# Altium footprint library PcbLib1.PcbLib: 31 footprints (part 1 of 2)
Each footprint in its own frame and in the unit in brackets; x right, y up, seen from the top. Pads: shape width x height; smd on the part's side, far side on the other; paste and mask are expansions set on the pad; w line width, h text height; cw(c..) or ccw(c..) is an arc to the next point about the centre after c.
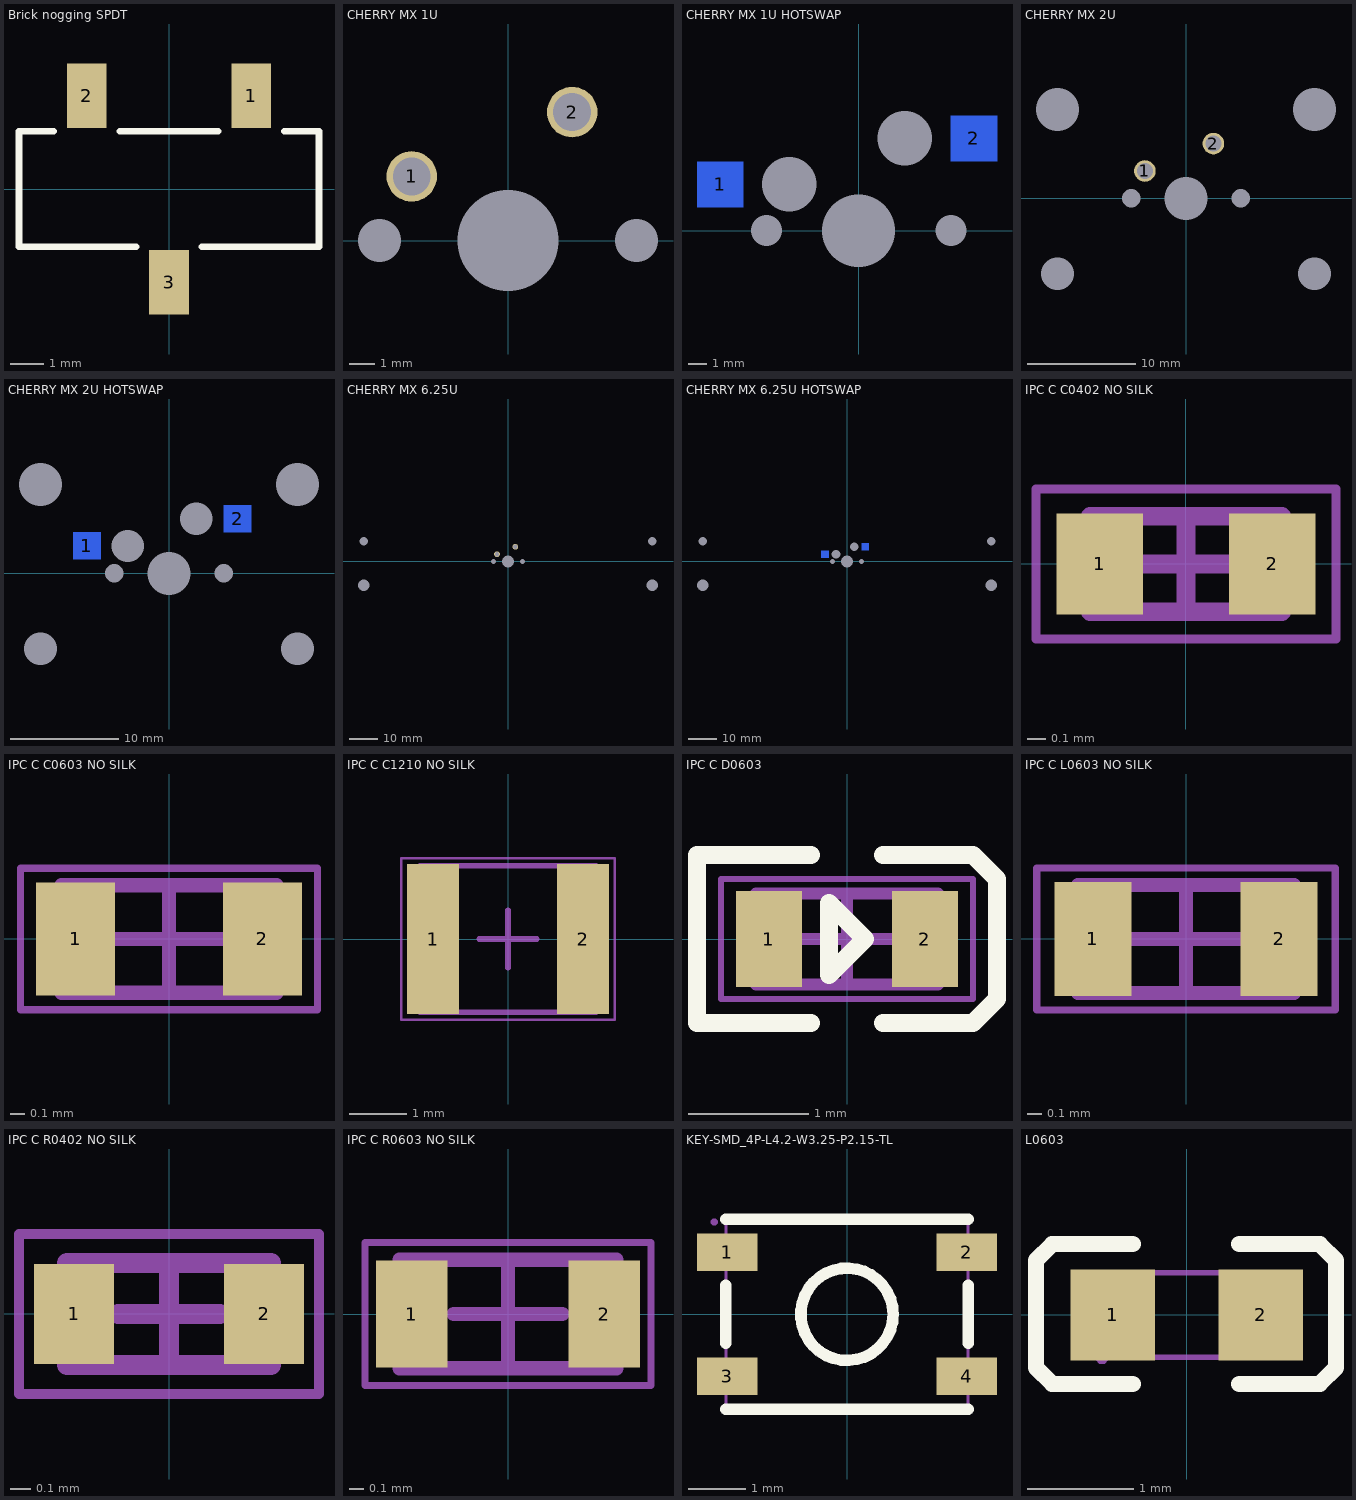
[diagram p0: the footprints below, top view; thin cyan lines are the x and y axes]

## Brick nogging SPDT [mm]
pads (3):
  rect 1.2x1.95 / inner rect 0x0 / far side rect 0x0 all layers, no hole mask+0.102: 1(2.5,2.825) 2(-2.5,2.825) 3(0,-2.825)
Top Overlay:
  lines w0.2: -3.5,1.75 -4.55,1.75 -4.55,-1.75 -1,-1.75 ; -1.5,1.75 1.5,1.75 ; 1,-1.75 4.55,-1.75 4.55,1.75 3.5,1.75

## CHERRY MX 1U [mm]
pads (5):
  round 0 hole 1.71 unplated mask+0: 0(-5.08,0) 0(5.08,0)
  round 0 hole 4 unplated mask+0: 0(0,0)
  round 2 hole 1.5 mask+0.15: 1(-3.81,2.54) 2(2.54,5.08)
3D body "MX_no_LED.stp": height 15.57, standoff -3.03, extent -7.81,-7.8 7.789,7.8

## CHERRY MX 1U HOTSWAP [mm]
pads (7):
  round 0 hole 1.71 unplated mask+0: 0(-5.08,0) 0(5.08,0)
  round 0 hole 3 unplated mask+0: 0(-3.81,2.54) 0(2.54,5.08)
  round 0 hole 4 unplated mask+0: 0(0,0)
  rect 2.55x2.5 smd far side mask+0.15: 1(-7.62,2.54) 2(6.35,5.08)
3D body "MX_no_LED.stp": height 15.57, standoff -3.03, extent -7.789,-7.8 7.81,7.8
3D body "PG151101S11--3DModel-STEP-1.STEP": height 1.85, standoff -1.25, extent -7.885,0.865 6.615,6.755

## CHERRY MX 2U [mm]
pads (9):
  round 0 hole 3.048 unplated mask+0: 0(-11.906,-6.985) 0(11.906,-6.985)
  round 0 hole 3.988 unplated mask+0: 0(-11.906,8.255) 0(11.906,8.255)
  round 0 hole 1.71 unplated mask+0: 0(-5.08,0) 0(5.08,0)
  round 0 hole 4 unplated mask+0: 0(0,0)
  round 2 hole 1.5 mask+0.15: 1(-3.81,2.54) 2(2.54,5.08)
3D body "MX_no_LED.stp": height 15.57, standoff -3.03, extent -7.8,-7.789 7.8,7.81

## CHERRY MX 2U HOTSWAP [mm]
pads (11):
  round 0 hole 3.048 unplated mask+0: 0(-11.906,-6.985) 0(11.906,-6.985)
  round 0 hole 3.988 unplated mask+0: 0(-11.906,8.255) 0(11.906,8.255)
  round 0 hole 1.71 unplated mask+0: 0(-5.08,0) 0(5.08,0)
  round 0 hole 3 unplated mask+0: 0(-3.81,2.54) 0(2.54,5.08)
  round 0 hole 4 unplated mask+0: 0(0,0)
  rect 2.55x2.5 smd far side mask+0.15: 1(-7.62,2.54) 2(6.35,5.08)
3D body "PG151101S11--3DModel-STEP-1.STEP": height 1.85, standoff -1.25, extent -7.885,0.865 6.615,6.755
3D body "MX_no_LED.stp": height 15.57, standoff -3.03, extent -7.789,-7.8 7.81,7.8

## CHERRY MX 6.25U [mm]
pads (9):
  round 0 hole 3.988 unplated mask+0: 0(-50,-8.255) 0(50,-8.255)
  round 0 hole 3.048 unplated mask+0: 0(-50,6.985) 0(50,6.985)
  round 0 hole 1.71 unplated mask+0: 0(-5.08,0) 0(5.08,0)
  round 0 hole 4 unplated mask+0: 0(0,0)
  round 2 hole 1.5 mask+0.15: 1(-3.81,2.54) 2(2.54,5.08)
3D body "MX_no_LED.stp": height 15.57, standoff -3.03, extent -7.789,-7.8 7.81,7.8

## CHERRY MX 6.25U HOTSWAP [mm]
pads (11):
  round 0 hole 3.988 unplated mask+0: 0(-50,-8.255) 0(50,-8.255)
  round 0 hole 3.048 unplated mask+0: 0(-50,6.985) 0(50,6.985)
  round 0 hole 1.71 unplated mask+0: 0(-5.08,0) 0(5.08,0)
  round 0 hole 3 unplated mask+0: 0(-3.81,2.54) 0(2.54,5.08)
  round 0 hole 4 unplated mask+0: 0(0,0)
  rect 2.55x2.5 smd far side mask+0.15: 1(-7.62,2.54) 2(6.35,5.08)
3D body "PG151101S11--3DModel-STEP-1.STEP": height 1.85, standoff -1.25, extent -7.885,0.865 6.615,6.755
3D body "MX_no_LED.stp": height 15.57, standoff -3.03, extent -7.8,-7.789 7.8,7.81

## IPC C C0402 NO SILK [mm] "Chip Capacitor, 2-Leads, Body 1.02x0.51mm, IPC High Density"
height 0.51
pads (2):
  rect 0.46x0.54 smd: 1(-0.46,0) 2(0.46,0)
Mechanical 13:
  lines w0.1: -0.51,-0.255 -0.51,0.255 0.51,0.255 0.51,-0.255 -0.51,-0.255
Mechanical 15:
  lines w0.05: -0.8,-0.4 -0.8,0.4 0.8,0.4 0.8,-0.4 -0.8,-0.4
  lines w0.1: -0.255,0 0.255,0 ; 0,-0.255 0,0.255
3D body: height 0.51, standoff 0, extent -0.31,-0.255 0.31,0.255
3D body: height 0.51, standoff 0, extent -0.51,-0.255 -0.31,0.255
3D body: height 0.51, standoff 0, extent 0.31,-0.255 0.51,0.255

## IPC C C0603 NO SILK [mm] "Chip Capacitor, 2-Leads, Body 1.52x0.76mm, IPC High Density"
height 0.77
pads (2):
  rect 0.56x0.8 smd: 1(-0.66,0) 2(0.66,0)
Mechanical 13:
  lines w0.1: -0.76,-0.38 0.76,-0.38 0.76,0.38 -0.76,0.38 -0.76,-0.38
Mechanical 15:
  lines w0.05: -1.05,-0.5 1.05,-0.5 1.05,0.5 -1.05,0.5 -1.05,-0.5
  lines w0.1: -0.38,0 0.38,0 ; 0,-0.38 0,0.38
3D body: height 0.77, standoff 0, extent 0.46,-0.38 0.76,0.38
3D body: height 0.77, standoff 0, extent -0.76,-0.38 -0.46,0.38
3D body: height 0.77, standoff 0, extent -0.46,-0.38 0.46,0.38

## IPC C C1210 NO SILK [mm] "Chip Capacitor, 2-Leads, Body 3.05x2.54mm, IPC High Density"
height 2.54
pads (2):
  rect 0.9x2.6 smd: 1(-1.3,0) 2(1.3,0)
Mechanical 13:
  lines w0.1: -1.525,-1.27 -1.525,1.27 1.525,1.27 1.525,-1.27 -1.525,-1.27
Mechanical 15:
  lines w0.05: -1.85,-1.4 -1.85,1.4 1.85,1.4 1.85,-1.4 -1.85,-1.4
  lines w0.1: -0.5,0 0.5,0 ; 0,-0.5 0,0.5
3D body: height 2.54, standoff 0, extent -0.915,-1.27 0.915,1.27
3D body: height 2.54, standoff 0, extent -1.525,-1.27 -0.915,1.27
3D body: height 2.54, standoff 0, extent 0.915,-1.27 1.525,1.27

## IPC C D0603 [mm] "Chip Diode, 2-Leads, Body 1.52x0.76mm, IPC High Density"
height 0.39
pads (2):
  rect 0.55x0.8 smd: 1(-0.65,0) 2(0.65,0)
Top Overlay:
  lines w0.15: -0.3,-0.7 -1.25,-0.7 -1.25,0.7 -0.3,0.7 ; 0.3,-0.7 1.05,-0.7 1.25,-0.5 1.25,0.5 1.05,0.7 0.3,0.7 ; -0.15,-0.3 0.15,0 -0.15,0.3 -0.15,-0.3
Mechanical 13:
  lines w0.1: -0.76,-0.38 0.76,-0.38 0.76,0.38 -0.76,0.38 -0.76,-0.38
Mechanical 15:
  lines w0.05: -1.05,-0.5 1.05,-0.5 1.05,0.5 -1.05,0.5 -1.05,-0.5
  lines w0.1: -0.38,0 0.38,0 ; 0,-0.38 0,0.38
3D body: height 0.39, standoff 0, extent 0.46,-0.38 0.76,0.38
3D body: height 0.39, standoff 0, extent -0.76,-0.38 -0.46,0.38
3D body: height 0.39, standoff 0, extent -0.46,-0.38 0.46,0.38

## IPC C L0603 NO SILK [mm] "Chip Inductor, 2-Leads, Body 1.52x0.76mm, IPC High Density"
height 0.77
pads (2):
  rect 0.54x0.8 smd: 1(-0.655,0) 2(0.655,0)
Mechanical 13:
  lines w0.1: -0.76,-0.38 -0.76,0.38 0.76,0.38 0.76,-0.38 -0.76,-0.38
Mechanical 15:
  lines w0.05: -1.05,-0.5 -1.05,0.5 1.05,0.5 1.05,-0.5 -1.05,-0.5
  lines w0.1: -0.38,0 0.38,0 ; 0,-0.38 0,0.38
3D body: height 0.77, standoff 0, extent -0.46,-0.38 0.46,0.38
3D body: height 0.77, standoff 0, extent -0.76,-0.38 -0.46,0.38
3D body: height 0.77, standoff 0, extent 0.46,-0.38 0.76,0.38

## IPC C R0402 NO SILK [mm] "Chip Resistor, 2-Leads, Body 1.02x0.51mm, IPC High Density"
height 0.26
pads (2):
  rect 0.4x0.5 smd: 1(-0.475,0) 2(0.475,0)
Mechanical 13:
  lines w0.1: -0.51,-0.255 0.51,-0.255 0.51,0.255 -0.51,0.255 -0.51,-0.255
Mechanical 15:
  lines w0.05: -0.75,-0.4 0.75,-0.4 0.75,0.4 -0.75,0.4 -0.75,-0.4
  lines w0.1: -0.255,0 0.255,0 ; 0,-0.255 0,0.255
3D body: height 0.26, standoff 0, extent 0.31,-0.255 0.51,0.255
3D body: height 0.26, standoff 0, extent -0.51,-0.255 -0.31,0.255
3D body: height 0.26, standoff 0, extent -0.31,-0.255 0.31,0.255

## IPC C R0603 NO SILK [mm] "Chip Resistor, 2-Leads, Body 1.52x0.76mm, IPC High Density"
height 0.39
pads (2):
  rect 0.5x0.75 smd: 1(-0.675,0) 2(0.675,0)
Mechanical 13:
  lines w0.1: -0.76,-0.38 -0.76,0.38 0.76,0.38 0.76,-0.38 -0.76,-0.38
Mechanical 15:
  lines w0.05: -1,-0.5 -1,0.5 1,0.5 1,-0.5 -1,-0.5
  lines w0.1: -0.38,0 0.38,0 ; 0,-0.38 0,0.38
3D body: height 0.39, standoff 0, extent -0.46,-0.38 0.46,0.38
3D body: height 0.39, standoff 0, extent -0.76,-0.38 -0.46,0.38
3D body: height 0.39, standoff 0, extent 0.46,-0.38 0.76,0.38

## KEY-SMD_4P-L4.2-W3.25-P2.15-TL [mm]
pads (4):
  rect 1.05x0.65 smd mask+0.051: 1(-2.075,1.075) 2(2.075,1.075) 3(-2.075,-1.075) 4(2.075,-1.075)
Top Overlay:
  circle w0.2: c0,0 r0.8
  lines w0.2: -2.1,-1.65 2.1,-1.65 ; -2.1,-0.5 -2.1,0.5 ; -2.1,1.65 2.1,1.65 ; 2.1,-0.5 2.1,0.5
Mechanical 15:
  region: -2.24,1.6 -2.24,1.625 -2.275,1.66 -2.325,1.66 -2.36,1.625 -2.36,1.6 -2.36,1.575 -2.325,1.54 -2.275,1.54 -2.24,1.575
  region: 1.7,1.325 2.3,1.325 2.3,0.825 1.7,0.825
  region: 1.7,-0.825 2.3,-0.825 2.3,-1.325 1.7,-1.325
  region: -1.7,-1.325 -2.3,-1.325 -2.3,-0.825 -1.7,-0.825
  region: -1.7,0.825 -2.3,0.825 -2.3,1.325 -1.7,1.325
  lines w0.051: -2.1,-1.6 -2.1,1.6 2.1,1.6 2.1,-1.6 -2.1,-1.6

## L0603 [mm]
pads (2):
  rect 0.8x0.864 smd mask+0.051: 1(-0.7,0) 2(0.7,0)
Top Overlay:
  lines w0.152: -0.51,-0.651 -1.272,-0.651 -1.424,-0.499 -1.424,0.517 -1.272,0.67 -0.51,0.67 ; 0.496,-0.651 1.258,-0.651 1.411,-0.499 1.411,0.517 1.258,0.67 0.496,0.67
Top Paste:
  region: 0.264,0.154 0.264,-0.122 0.538,-0.416 1.042,-0.416 1.106,-0.352 1.106,0.384 1.042,0.448 0.538,0.448
  region: -0.252,0.143 -0.252,-0.134 -0.526,-0.427 -1.029,-0.427 -1.093,-0.363 -1.093,0.373 -1.029,0.437 -0.526,0.437
Mechanical 15:
  region: -0.5,-0.4 -0.8,-0.4 -0.8,0.4 -0.5,0.4
  region: 0.8,-0.4 0.5,-0.4 0.5,0.4 0.8,0.4
  region: -0.74,-0.4 -0.74,-0.375 -0.775,-0.34 -0.825,-0.34 -0.86,-0.375 -0.86,-0.4 -0.86,-0.425 -0.825,-0.46 -0.775,-0.46 -0.74,-0.425
  lines w0.051: -0.8,-0.4 -0.8,0.4 0.8,0.4 0.8,-0.4 -0.8,-0.4